# Altium footprint library IND_ASPI-0315S-220M-T.PcbLib: 1 footprints
Each footprint in its own frame and in the unit in brackets; x right, y up, seen from the top. Pads: shape width x height; smd on the part's side, far side on the other; paste and mask are expansions set on the pad; w line width, h text height; cw(c..) or ccw(c..) is an arc to the next point about the centre after c.
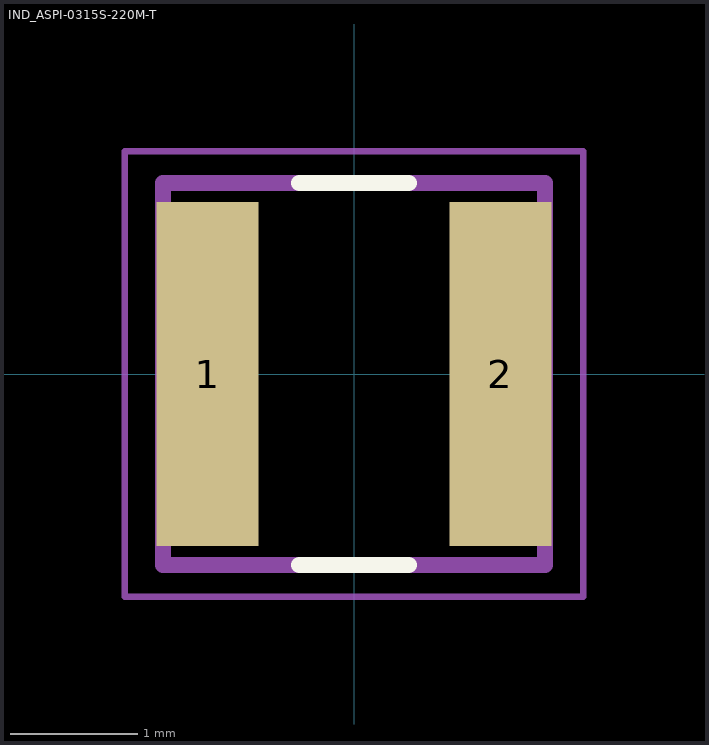
[diagram p0: the footprint, top view; thin cyan lines are the x and y axes]

## IND_ASPI-0315S-220M-T [mm]
height 1.5
pads (2):
  rect 0.8x2.7 smd: 1(-1.15,0) 2(1.15,0)
Top Overlay:
  lines w0.127: -0.43,-1.5 0.43,-1.5 ; -0.43,1.5 0.43,1.5
Mechanical 13:
  lines w0.127: -1.5,-1.5 -1.5,1.5 1.5,1.5 1.5,-1.5 -1.5,-1.5
Mechanical 15:
  lines w0.05: -1.8,-1.75 -1.8,1.75 1.8,1.75 1.8,-1.75 -1.8,-1.75